# Altium footprint library PcbLib1.PcbLib: 49 footprints (part 3 of 4)
Each footprint in its own frame and in the unit in brackets; x right, y up, seen from the top. Pads: shape width x height; smd on the part's side, far side on the other; paste and mask are expansions set on the pad; w line width, h text height; cw(c..) or ccw(c..) is an arc to the next point about the centre after c.
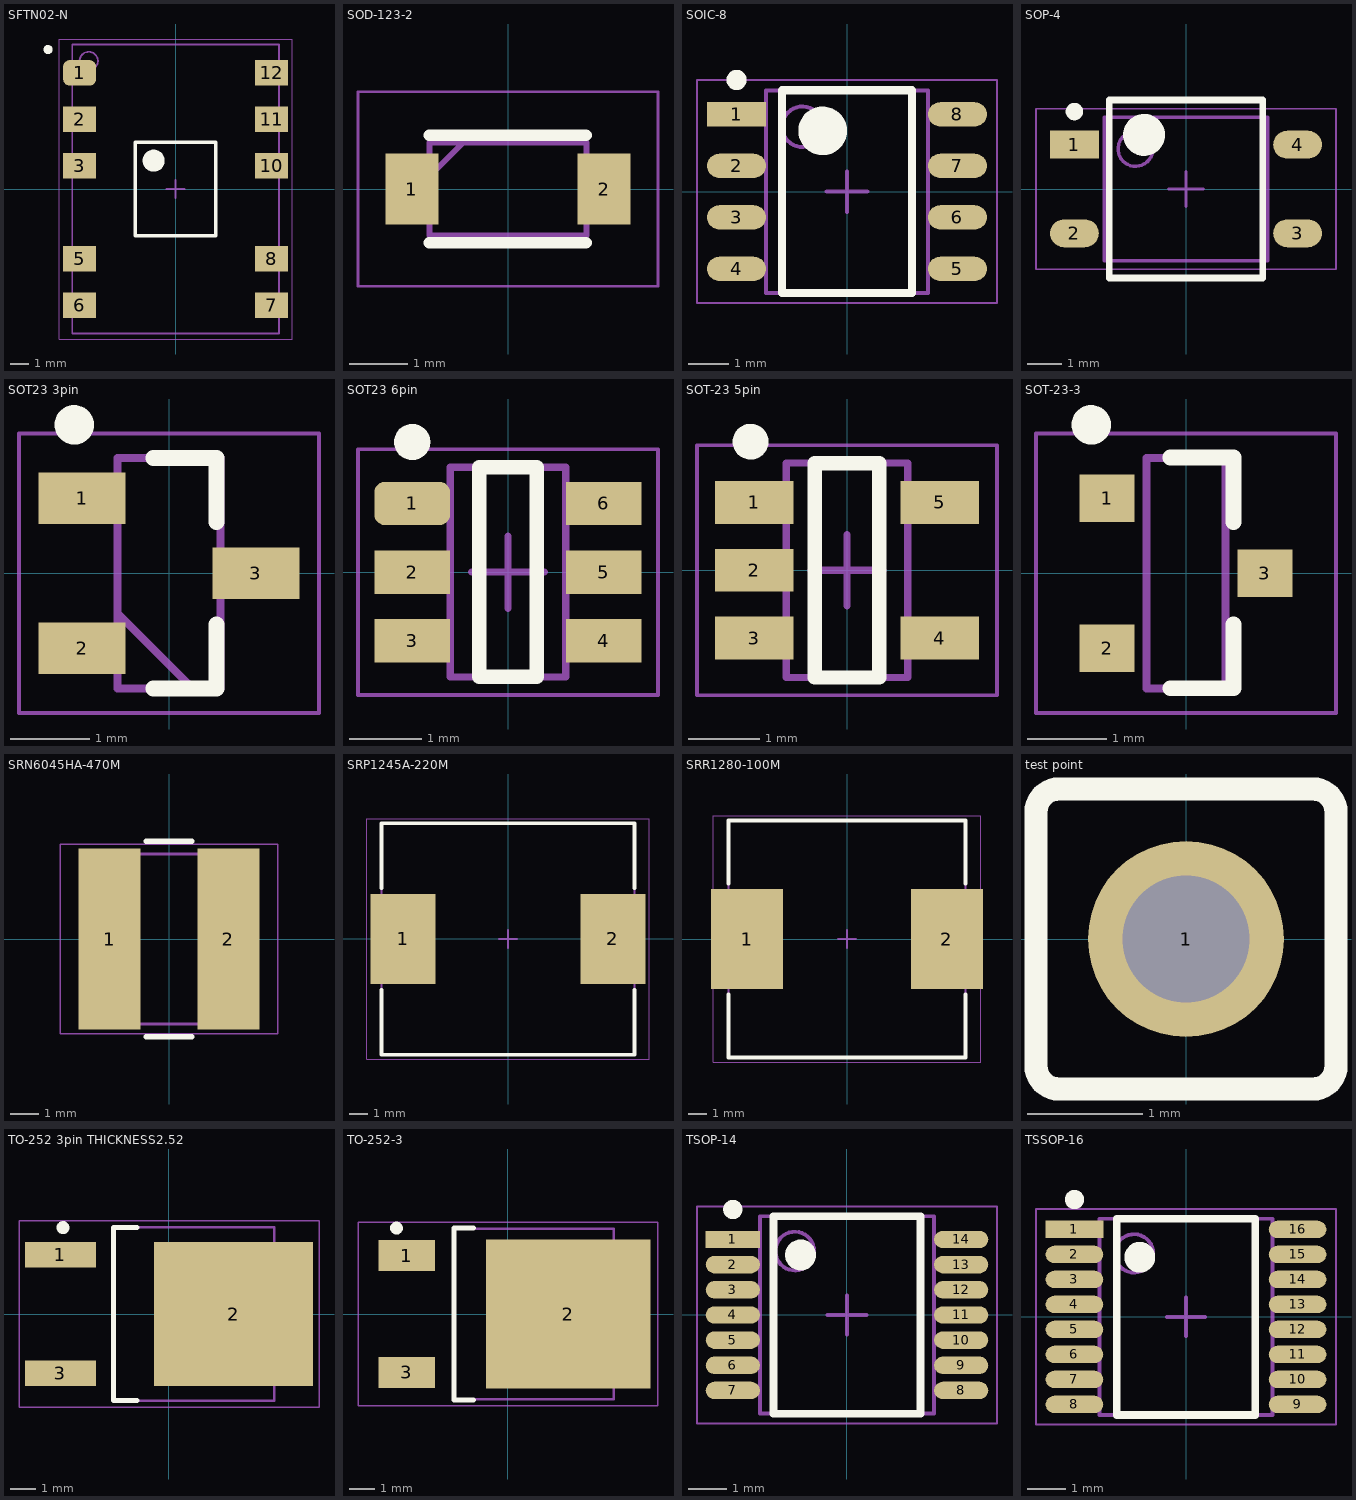
[diagram p2: the footprints below, top view; thin cyan lines are the x and y axes]

## SFTN02-N [mm] "SOP, 12-Leads, Body 15,24x10,90mm, Pitch 2,54mm, IPC Medium Density"
height 9.46
pads (10):
  rrect50% 1.8x1.4 smd: 1(-5.25,6.35)
  rect 1.8x1.4 smd: 2(-5.25,3.81) 3(-5.25,1.27) 5(-5.25,-3.81) 6(-5.25,-6.35) 7(5.25,-6.35) 8(5.25,-3.81) 10(5.25,1.27) 11(5.25,3.81) 12(5.25,6.35)
Top Overlay:
  circle w0.6: c-1.2,1.55 r0.3
  circle w0.25: c-6.975,7.625 r0.125
  lines w0.2: -2.2,-2.55 2.2,-2.55 2.2,2.55 -2.2,2.55 -2.2,-2.55
Top Assembly:
  circle w0.1: c-4.75,7 r0.5
  lines w0.1: -5.65,-7.9 5.65,-7.9 5.65,7.9 -5.65,7.9 -5.65,-7.9
Mechanical 15:
  lines w0.05: -6.375,-8.2 6.375,-8.2 6.375,8.2 -6.375,8.2 -6.375,-8.2
  lines w0.1: -0.5,0 0.5,0 ; 0,-0.5 0,0.5
3D body: height 9.46, standoff 0, extent -5.65,-7.9 5.65,7.9

## SOD-123-2 [mm]
pads (2):
  rect 0.91x1.22 smd: 1(-1.65,0) 2(1.65,0)
Top Overlay:
  lines w0.2: -1.35,-0.925 1.34,-0.925 ; -1.35,0.925 1.34,0.925
Mechanical 15:
  lines w0.1: -1.345,0.225 -0.77,0.8 ; -1.345,-0.8 -1.345,0.8 1.345,0.8 1.345,-0.8 -1.345,-0.8
Mechanical 20:
  lines w0.05: -2.575,-1.67 -2.575,1.67 2.575,1.67 2.575,-1.67 -2.575,-1.67
3D body "MMSZ4697T1G.STEP": height 1.33, standoff -0.02, extent -1.841,-0.8 1.841,0.8

## SOIC-8 [mm] "SOIC, 8-Leads, Body 4,91x3,90mm, Pitch 1,27mm, IPC Medium Density"
height 1.75
pads (8):
  rect 1.45x0.6 smd: 1(-2.725,1.905)
  oval 1.45x0.6 smd: 2(-2.725,0.635) 3(-2.725,-0.635) 4(-2.725,-1.905) 5(2.725,-1.905) 6(2.725,-0.635) 7(2.725,0.635) 8(2.725,1.905)
Top Overlay:
  circle w0.25: c-2.725,2.755 r0.125
  circle w0.6: c-0.6,1.5 r0.3
  lines w0.2: -1.6,-2.5 -1.6,2.5 1.6,2.5 1.6,-2.5 -1.6,-2.5
Mechanical 13:
  circle w0.1: c-1.1,1.6 r0.5
  lines w0.1: -2,-2.5 -2,2.5 2,2.5 2,-2.5 -2,-2.5
Mechanical 15:
  lines w0.05: -3.7,-2.75 -3.7,2.75 3.7,2.75 3.7,-2.75 -3.7,-2.75
  lines w0.1: -0.5,0 0.5,0 ; 0,-0.5 0,0.5
3D body "SOIC127P600X175-8N.step": height 1.75, standoff 0, extent -2.997,-2.5 2.997,2.5

## SOP-4 [mm] "SOP, 4-Leads, Body 3,90x4,40mm, Pitch 2,54mm, IPC Medium Density"
height 2.1
pads (4):
  rect 1.4x0.8 smd: 1(-3.2,1.27)
  oval 1.4x0.8 smd: 2(-3.2,-1.27) 3(3.2,-1.27) 4(3.2,1.27)
Top Overlay:
  circle w0.6: c-1.2,1.55 r0.3
  circle w0.25: c-3.2,2.22 r0.125
  lines w0.2: -2.2,-2.55 2.2,-2.55 2.2,2.55 -2.2,2.55 -2.2,-2.55
Top Assembly:
  circle w0.1: c-1.45,1.15 r0.5
  lines w0.1: -2.35,-2.05 2.35,-2.05 2.35,2.05 -2.35,2.05 -2.35,-2.05
Mechanical 15:
  lines w0.05: -4.3,-2.3 4.3,-2.3 4.3,2.3 -4.3,2.3 -4.3,-2.3
  lines w0.1: -0.5,0 0.5,0 ; 0,-0.5 0,0.5
3D body "SOP254P700X210-4N.step": height 2.1, standoff 0, extent -3.5,-2.05 3.5,2.05

## SOT23 3pin [mm] "SOT23, 3-Leads, Body 3,10x2,37mm, Pitch 0,95mm, IPC Medium Density"
height 1.11
pads (3):
  rect 1.1x0.65 smd: 1(-1.1,0.95) 2(-1.1,-0.95) 3(1.1,0)
Top Overlay:
  circle w0.25: c-1.2,1.88 r0.125
  lines w0.2: -0.2,-1.46 0.6,-1.46 0.6,-0.65 ; -0.2,1.46 0.6,1.46 0.6,0.65
Mechanical 15:
  lines w0.1: -0.65,-0.51 0.3,-1.46 ; -0.65,-1.46 -0.65,1.46 0.65,1.46 0.65,-1.46 -0.65,-1.46
Mechanical 20:
  lines w0.05: -1.9,-1.77 -1.9,1.77 1.9,1.77 1.9,-1.77 -1.9,-1.77
3D body "LM4040DYM3-2.5-TR.stp": height 1.11, standoff 0, extent -1.185,-1.46 1.185,1.46

## SOT23 6pin [mm] "SOT23, 6-Leads, Body 2,90x2,80mm, Pitch 0,95mm, IPC Medium Density"
height 1.45
pads (6):
  rrect50% 1.05x0.6 smd: 1(-1.325,0.95)
  rect 1.05x0.6 smd: 2(-1.325,0) 3(-1.325,-0.95) 4(1.325,-0.95) 5(1.325,0) 6(1.325,0.95)
Top Overlay:
  circle w0.25: c-1.325,1.8 r0.125
  lines w0.2: -0.4,-1.45 -0.4,1.45 0.4,1.45 0.4,-1.45 -0.4,-1.45
Top Assembly:
  lines w0.1: -0.8,-1.45 0.8,-1.45 0.8,1.45 -0.8,1.45 -0.8,-1.45
Mechanical 15:
  lines w0.05: -2.075,-1.7 2.075,-1.7 2.075,1.7 -2.075,1.7 -2.075,-1.7
  lines w0.1: -0.5,0 0.5,0 ; 0,-0.5 0,0.5
3D body "SOT95P280X145-6N.step": height 1.45, standoff 0, extent -1.4,-1.45 1.4,1.45

## SOT-23 5pin [mm] "SOT23, 5-Leads, Body 2,90x2,80mm, Pitch 0,95mm, IPC Medium Density"
height 1.45
pads (5):
  rect 1.1x0.6 smd: 1(-1.3,0.95) 2(-1.3,0) 3(-1.3,-0.95) 4(1.3,-0.95) 5(1.3,0.95)
Top Overlay:
  circle w0.25: c-1.35,1.8 r0.125
  lines w0.2: -0.45,-1.5 -0.45,1.5 0.45,1.5 0.45,-1.5 -0.45,-1.5
Mechanical 13:
  lines w0.1: -0.85,-1.5 0.85,-1.5 0.85,1.5 -0.85,1.5 -0.85,-1.5
Mechanical 15:
  lines w0.05: -2.1,-1.75 2.1,-1.75 2.1,1.75 -2.1,1.75 -2.1,-1.75
  lines w0.1: -0.5,0 0.5,0 ; 0,-0.5 0,0.5
3D body "SOT95P280X145-5N.step": height 1.45, standoff 0, extent -1.5,-1.5 1.5,1.5

## SOT-23-3 [mm]
pads (3):
  rect 0.7x0.6 smd: 1(-1,0.95) 2(-1,-0.95) 3(1,0)
Top Overlay:
  circle w0.25: c-1.2,1.88 r0.125
  lines w0.2: -0.2,-1.455 0.6,-1.455 0.6,-0.65 ; -0.2,1.465 0.6,1.465 0.6,0.65
Mechanical 15:
  lines w0.1: -0.5,-1.46 0.5,-1.46 0.5,1.46 -0.5,1.46 -0.5,-1.46
Mechanical 20:
  lines w0.05: -1.9,-1.77 -1.9,1.77 1.9,1.77 1.9,-1.77 -1.9,-1.77
3D body "SOT23.step": height 0.95, standoff 0, extent -1.201,-1.45 1.2,1.45

## SRN6045HA-470M [mm]
height 4.7
pads (2):
  rect 2.2x6.4 smd: 1(-2.1,0) 2(2.1,0)
Top Overlay:
  lines w0.2: -0.8,-3.45 0.8,-3.45 ; -0.8,3.45 0.8,3.45
Mechanical 15:
  lines w0.1: -3,-3 -3,3 3,3 3,-3 -3,-3
Mechanical 20:
  lines w0.05: -3.85,-3.35 -3.85,3.35 3.85,3.35 3.85,-3.35 -3.85,-3.35
3D body "SRN6045HA-470M.stp": height 4.7, standoff 0, extent -3,-3 3,3

## SRP1245A-220M [mm] "Precision Wire Wound Inductor, 2-Leads, Body 13,50x12,50mm, IPC Medium Density"
height 5
pads (2):
  rect 3.6x5 smd: 1(-5.8,0) 2(5.8,0)
Top Overlay:
  lines w0.2: -7,-2.825 -7,-6.4 7,-6.4 7,-2.825 ; -7,2.825 -7,6.4 7,6.4 7,2.825
Top Assembly:
  lines w0.1: -7,-6.4 -7,6.4 7,6.4 7,-6.4 -7,-6.4
Mechanical 15:
  lines w0.05: -7.825,-6.65 -7.825,6.65 7.825,6.65 7.825,-6.65 -7.825,-6.65
  lines w0.1: -0.5,0 0.5,0 ; 0,-0.5 0,0.5
3D body "SRP1245A-220M.stp": height 4.85, standoff 0.05, extent -6.75,-6.25 6.75,6.25

## SRR1280-100M [mm] "Precision Wire Wound Inductor, 2-Leads, Body 12,50x12,50mm, IPC Medium Density"
height 8
pads (2):
  rect 3.9x5.4 smd: 1(-5.4,0) 2(5.4,0)
Top Overlay:
  lines w0.2: -6.4,-3 -6.4,-6.4 6.4,-6.4 6.4,-3 ; -6.4,3 -6.4,6.4 6.4,6.4 6.4,3
Top Assembly:
  lines w0.1: -6.4,-6.4 6.4,-6.4 6.4,6.4 -6.4,6.4 -6.4,-6.4
Mechanical 15:
  lines w0.05: -7.225,-6.65 7.225,-6.65 7.225,6.65 -7.225,6.65 -7.225,-6.65
  lines w0.1: -0.5,0 0.5,0 ; 0,-0.5 0,0.5
3D body "User Library-DR127-1.STEP": height 8, standoff 0, extent -6.25,-6.25 6.25,6.25

## test point [mm]
pads (1):
  round 1.7 hole 1.1: 1(0,0)
Top Overlay:
  lines w0.2: -1.3,-1.1 ccw(c-1.1,-1.1) -1.1,-1.3 1.1,-1.3 ccw(c1.1,-1.1) 1.3,-1.1 1.3,1.1 ccw(c1.1,1.1) 1.1,1.3 -1.1,1.3 ccw(c-1.1,1.1) -1.3,1.1 -1.3,-1.1
3D body "User Library-PLS-1.step": height 8.44, standoff -3, extent -1.27,-1.27 1.27,1.27

## TO-252 3pin THICKNESS2.52 [mm] "D-PAK, 3-Pads, Body 6,21x6,71mm (max), IPC Medium Density"
height 2.52
pads (3):
  rect 2.75x1 smd: 1(-4.2,2.29) 3(-4.2,-2.29)
  rect 6.15x5.55 smd: 2(2.5,0)
Top Overlay:
  circle w0.25: c-4.1,3.34 r0.125
  lines w0.2: -1.25,-3.35 -2.15,-3.35 -2.15,3.35 -1.25,3.35
Top Assembly:
  lines w0.1: -2.15,-3.35 4.07,-3.35 4.07,3.35 -2.15,3.35 -2.15,-3.35
Mechanical 15:
  lines w0.05: -5.8,-3.6 5.8,-3.6 5.8,3.6 -5.8,3.6 -5.8,-3.6
  lines w0.1: -0.5,0 0.5,0 ; 0,-0.5 0,0.5
3D body "UA78M33CKVURG3.stp": height 2.31, standoff -0.12, extent -4.978,-3.263 5.128,3.263

## TO-252-3 [mm] "D-PAK, 3-Pads, Body 6,21x6,69mm (max), IPC Medium Density"
height 2.35
pads (3):
  rect 2.2x1.2 smd: 1(-3.95,2.28) 3(-3.95,-2.28)
  rect 6.4x5.8 smd: 2(2.35,0)
Top Overlay:
  circle w0.25: c-4.35,3.35 r0.125
  lines w0.2: -1.35,-3.35 -2.1,-3.35 -2.1,3.35 -1.35,3.35
Top Assembly:
  lines w0.1: -2.1,-3.325 4.12,-3.325 4.12,3.325 -2.1,3.325 -2.1,-3.325
Mechanical 15:
  lines w0.05: -5.85,-3.575 5.85,-3.575 5.85,3.575 -5.85,3.575 -5.85,-3.575
  lines w0.1: -0.5,0 0.5,0 ; 0,-0.5 0,0.5
3D body "DPAK228P998X235-3N.step": height 2.35, standoff 0, extent -4.62,-3.325 5.36,3.325

## TSOP-14 [mm] "TSOP, 14-Leads, Body 5,00x4,40mm, Pitch 0,65mm, IPC Medium Density"
height 1.2
pads (14):
  rect 1.4x0.45 smd: 1(-2.95,1.95)
  oval 1.4x0.45 smd: 2(-2.95,1.3) 3(-2.95,0.65) 4(-2.95,0) 5(-2.95,-0.65) 6(-2.95,-1.3) 7(-2.95,-1.95) 8(2.95,-1.95) 9(2.95,-1.3) 10(2.95,-0.65) 11(2.95,0) 12(2.95,0.65) 13(2.95,1.3) 14(2.95,1.95)
Top Overlay:
  circle w0.4: c-1.2,1.55 r0.2
  circle w0.25: c-2.95,2.725 r0.125
  lines w0.2: -1.9,-2.55 1.9,-2.55 1.9,2.55 -1.9,2.55 -1.9,-2.55
Mechanical 13:
  circle w0.1: c-1.35,1.65 r0.5
  lines w0.1: -2.25,-2.55 2.25,-2.55 2.25,2.55 -2.25,2.55 -2.25,-2.55
Mechanical 15:
  lines w0.05: -3.875,-2.8 3.875,-2.8 3.875,2.8 -3.875,2.8 -3.875,-2.8
  lines w0.1: -0.5,0 0.5,0 ; 0,-0.5 0,0.5
3D body "TSOP65P640X120-14N.step": height 1.2, standoff 0, extent -3.2,-2.55 3.2,2.55

## TSSOP-16 [mm] "TSOP, 16-Leads, Body 5,00x4,40mm, Pitch 0,65mm, IPC Medium Density"
height 1.2
pads (16):
  rect 1.5x0.45 smd: 1(-2.9,2.275)
  oval 1.5x0.45 smd: 2(-2.9,1.625) 3(-2.9,0.975) 4(-2.9,0.325) 5(-2.9,-0.325) 6(-2.9,-0.975) 7(-2.9,-1.625) 8(-2.9,-2.275) 9(2.9,-2.275) 10(2.9,-1.625) 11(2.9,-0.975) 12(2.9,-0.325) 13(2.9,0.325) 14(2.9,0.975) 15(2.9,1.625) 16(2.9,2.275)
Top Overlay:
  circle w0.4: c-1.2,1.55 r0.2
  circle w0.25: c-2.9,3.05 r0.125
  lines w0.2: -1.8,-2.55 1.8,-2.55 1.8,2.55 -1.8,2.55 -1.8,-2.55
Top Assembly:
  circle w0.1: c-1.35,1.65 r0.5
  lines w0.1: -2.25,-2.55 2.25,-2.55 2.25,2.55 -2.25,2.55 -2.25,-2.55
Mechanical 15:
  lines w0.05: -3.9,-2.8 3.9,-2.8 3.9,2.8 -3.9,2.8 -3.9,-2.8
  lines w0.1: -0.5,0 0.5,0 ; 0,-0.5 0,0.5
3D body "TSOP65P640X120-16N.step": height 1.2, standoff 0, extent -3.2,-2.55 3.2,2.55